# Altium footprint library Blue_Pill.PcbLib: 13 footprints
Each footprint in its own frame and in the unit in brackets; x right, y up, seen from the top. Pads: shape width x height; smd on the part's side, far side on the other; paste and mask are expansions set on the pad; w line width, h text height; cw(c..) or ccw(c..) is an arc to the next point about the centre after c.
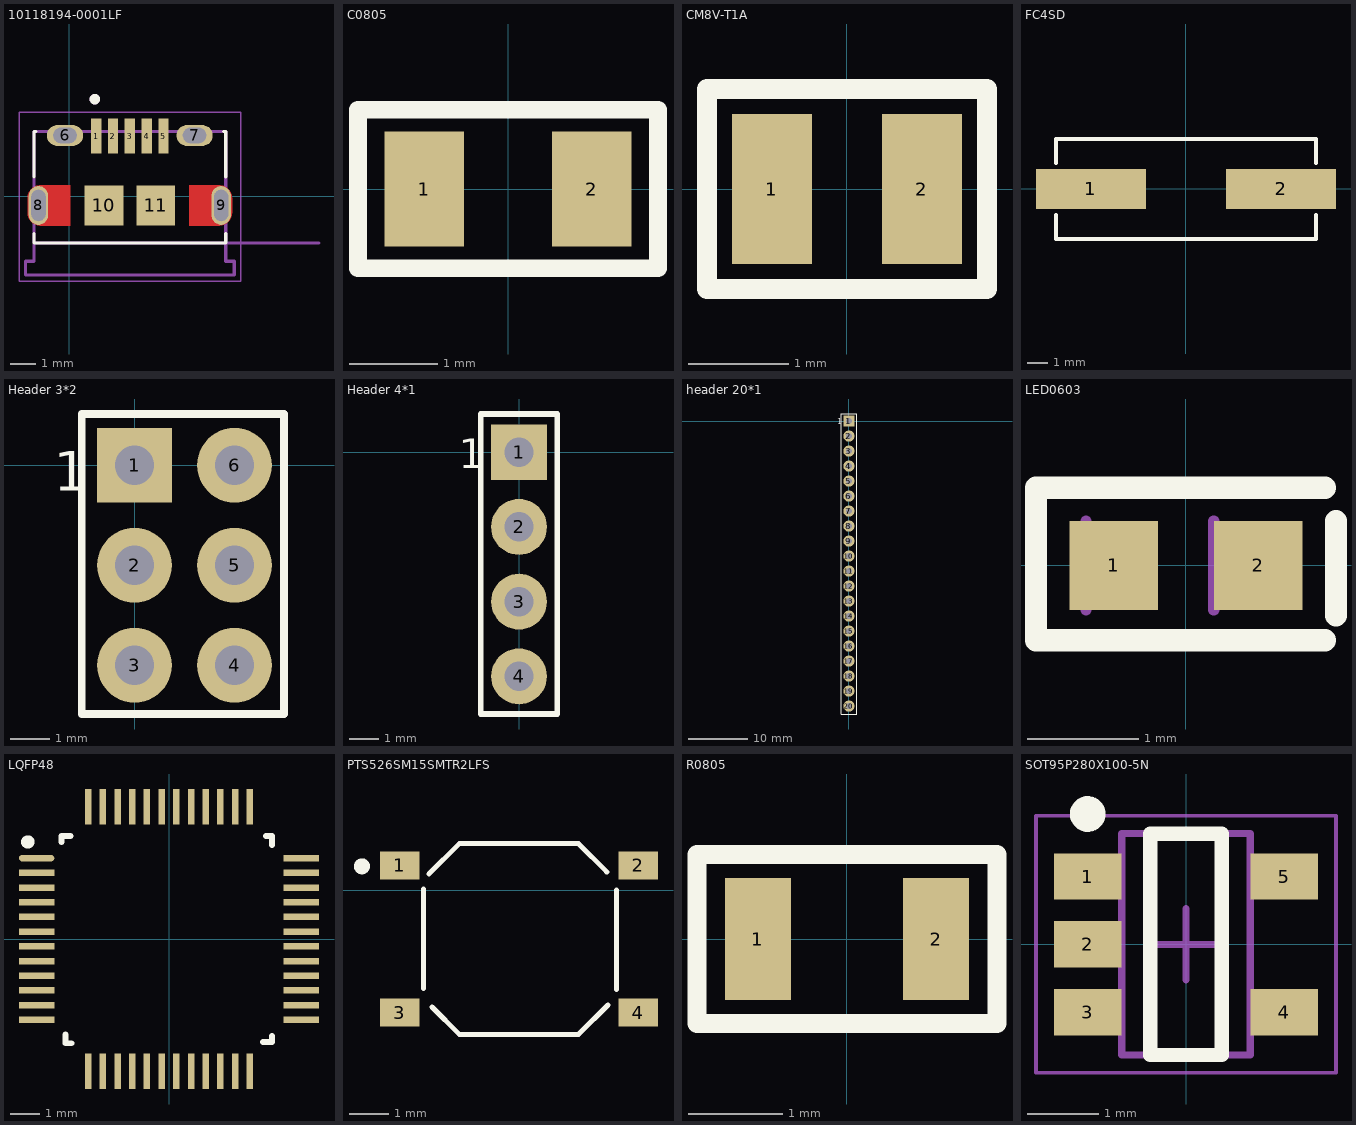
[diagram p0: the footprints below, top view; thin cyan lines are the x and y axes]

## 10118194-0001LF [mm]
pads (11):
  rect 0.4x1.35 smd mask+0.06: 1(1.038,2.321) 2(1.688,2.321) 3(2.338,2.321) 4(2.988,2.321) 5(3.638,2.321)
  oval 1.4x0.8 hole 0.6 slot 0.9 at 0 deg: 6(-0.162,2.346) 7(4.838,2.346)
  oval 0.75x1.5 hole 0.55 slot 1.2 at 90 deg: 8(-1.187,-0.354) 9(5.863,-0.354)
  rect 1.5x1.55 smd: 10(1.338,-0.354) 11(3.338,-0.354)
Top Layer:
  region: 0.038,-1.129 -1.107,-1.129 -1.133,-1.128 -1.159,-1.126 -1.185,-1.123 -1.211,-1.118 -1.236,-1.112 -1.262,-1.105 -1.286,-1.096 -1.31,-1.086 -1.334,-1.075 -1.357,-1.062 -1.379,-1.048 -1.401,-1.034 -1.422,-1.018 -1.442,-1.001 -1.461,-0.983 -1.479,-0.964 -1.496,-0.944 -1.512,-0.923 -1.526,-0.901 -1.54,-0.879 -1.553,-0.856 -1.564,-0.832 -1.574,-0.808 -1.583,-0.784 -1.59,-0.758 -1.596,-0.733 -1.601,-0.707 -1.604,-0.681 -1.606,-0.655 -1.607,-0.629 -1.607,-0.079 -1.606,-0.053 -1.604,-0.027 -1.601,-0.001 -1.596,0.025 -1.59,0.05 -1.583,0.076 -1.574,0.1 -1.564,0.124 -1.553,0.148 -1.54,0.171 -1.526,0.193 -1.512,0.215 -1.496,0.236 -1.479,0.256 -1.461,0.275 -1.442,0.293 -1.422,0.31 -1.401,0.326 -1.379,0.34 -1.357,0.354 -1.334,0.367 -1.31,0.378 -1.286,0.388 -1.262,0.397 -1.236,0.404 -1.211,0.41 -1.185,0.415 -1.159,0.418 -1.133,0.42 -1.107,0.421 0.038,0.421
  region: 5.809,0.42 5.835,0.418 5.861,0.415 5.887,0.41 5.912,0.404 5.938,0.397 5.962,0.388 5.986,0.378 6.01,0.367 6.033,0.354 6.055,0.34 6.077,0.326 6.098,0.31 6.118,0.293 6.137,0.275 6.155,0.256 6.172,0.236 6.188,0.215 6.202,0.193 6.216,0.171 6.229,0.148 6.24,0.124 6.25,0.1 6.259,0.076 6.266,0.05 6.272,0.025 6.277,-0.001 6.28,-0.027 6.282,-0.053 6.283,-0.079 6.283,-0.629 6.282,-0.655 6.28,-0.681 6.277,-0.707 6.272,-0.733 6.266,-0.758 6.259,-0.784 6.25,-0.808 6.24,-0.832 6.229,-0.856 6.216,-0.879 6.202,-0.901 6.188,-0.923 6.172,-0.944 6.155,-0.964 6.137,-0.983 6.118,-1.001 6.098,-1.018 6.077,-1.034 6.055,-1.048 6.033,-1.062 6.01,-1.075 5.986,-1.086 5.962,-1.096 5.938,-1.105 5.912,-1.112 5.887,-1.118 5.861,-1.123 5.835,-1.126 5.809,-1.128 5.783,-1.129 4.638,-1.129 4.638,0.421 5.783,0.421
Top Overlay:
  circle w0.2: c0.988,3.746 r0.1
  lines w0.127: -1.362,-1.449 -1.362,-1.804 6.038,-1.804 6.038,-1.449 ; -1.362,0.741 -1.362,2.496 -1.282,2.496 ; 5.958,2.496 6.038,2.496 6.038,0.741
Top Paste:
  region: 0.038,-1.129 -1.107,-1.129 -1.133,-1.128 -1.159,-1.126 -1.185,-1.123 -1.211,-1.118 -1.236,-1.112 -1.262,-1.105 -1.286,-1.096 -1.31,-1.086 -1.334,-1.075 -1.357,-1.062 -1.379,-1.048 -1.401,-1.034 -1.422,-1.018 -1.442,-1.001 -1.461,-0.983 -1.479,-0.964 -1.496,-0.944 -1.512,-0.923 -1.526,-0.901 -1.54,-0.879 -1.553,-0.856 -1.564,-0.832 -1.574,-0.808 -1.583,-0.784 -1.59,-0.758 -1.596,-0.733 -1.601,-0.707 -1.604,-0.681 -1.606,-0.655 -1.607,-0.629 -1.607,-0.079 -1.606,-0.053 -1.604,-0.027 -1.601,-0.001 -1.596,0.025 -1.59,0.05 -1.583,0.076 -1.574,0.1 -1.564,0.124 -1.553,0.148 -1.54,0.171 -1.526,0.193 -1.512,0.215 -1.496,0.236 -1.479,0.256 -1.461,0.275 -1.442,0.293 -1.422,0.31 -1.401,0.326 -1.379,0.34 -1.357,0.354 -1.334,0.367 -1.31,0.378 -1.286,0.388 -1.262,0.397 -1.236,0.404 -1.211,0.41 -1.185,0.415 -1.159,0.418 -1.133,0.42 -1.107,0.421 0.038,0.421
  region: 5.809,0.42 5.835,0.418 5.861,0.415 5.887,0.41 5.912,0.404 5.938,0.397 5.962,0.388 5.986,0.378 6.01,0.367 6.033,0.354 6.055,0.34 6.077,0.326 6.098,0.31 6.118,0.293 6.137,0.275 6.155,0.256 6.172,0.236 6.188,0.215 6.202,0.193 6.216,0.171 6.229,0.148 6.24,0.124 6.25,0.1 6.259,0.076 6.266,0.05 6.272,0.025 6.277,-0.001 6.28,-0.027 6.282,-0.053 6.283,-0.079 6.283,-0.629 6.282,-0.655 6.28,-0.681 6.277,-0.707 6.272,-0.733 6.266,-0.758 6.259,-0.784 6.25,-0.808 6.24,-0.832 6.229,-0.856 6.216,-0.879 6.202,-0.901 6.188,-0.923 6.172,-0.944 6.155,-0.964 6.137,-0.983 6.118,-1.001 6.098,-1.018 6.077,-1.034 6.055,-1.048 6.033,-1.062 6.01,-1.075 5.986,-1.086 5.962,-1.096 5.938,-1.105 5.912,-1.112 5.887,-1.118 5.861,-1.123 5.835,-1.126 5.809,-1.128 5.783,-1.129 4.638,-1.129 4.638,0.421 5.783,0.421
Top Solder:
  region: 0.138,-1.229 -1.207,-1.229 -1.233,-1.228 -1.259,-1.226 -1.285,-1.223 -1.311,-1.218 -1.336,-1.212 -1.362,-1.205 -1.386,-1.196 -1.41,-1.186 -1.434,-1.175 -1.457,-1.162 -1.479,-1.148 -1.501,-1.134 -1.522,-1.118 -1.542,-1.101 -1.561,-1.083 -1.579,-1.064 -1.596,-1.044 -1.612,-1.023 -1.626,-1.001 -1.64,-0.979 -1.653,-0.956 -1.664,-0.932 -1.674,-0.908 -1.683,-0.884 -1.69,-0.858 -1.696,-0.833 -1.701,-0.807 -1.704,-0.781 -1.706,-0.755 -1.707,-0.729 -1.707,0.021 -1.706,0.047 -1.704,0.073 -1.701,0.099 -1.696,0.125 -1.69,0.15 -1.683,0.176 -1.674,0.2 -1.664,0.224 -1.653,0.248 -1.64,0.271 -1.626,0.293 -1.612,0.315 -1.596,0.336 -1.579,0.356 -1.561,0.375 -1.542,0.393 -1.522,0.41 -1.501,0.426 -1.479,0.44 -1.457,0.454 -1.434,0.467 -1.41,0.478 -1.386,0.488 -1.362,0.497 -1.336,0.504 -1.311,0.51 -1.285,0.515 -1.259,0.518 -1.233,0.52 -1.207,0.521 0.138,0.521
  region: 5.909,0.52 5.935,0.518 5.961,0.515 5.987,0.51 6.012,0.504 6.038,0.497 6.062,0.488 6.086,0.478 6.11,0.467 6.133,0.454 6.155,0.44 6.177,0.426 6.198,0.41 6.218,0.393 6.237,0.375 6.255,0.356 6.272,0.336 6.288,0.315 6.302,0.293 6.316,0.271 6.329,0.248 6.34,0.224 6.35,0.2 6.359,0.176 6.366,0.15 6.372,0.125 6.377,0.099 6.38,0.073 6.382,0.047 6.383,0.021 6.383,-0.729 6.382,-0.755 6.38,-0.781 6.377,-0.807 6.372,-0.833 6.366,-0.858 6.359,-0.884 6.35,-0.908 6.34,-0.932 6.329,-0.956 6.316,-0.979 6.302,-1.001 6.288,-1.023 6.272,-1.044 6.255,-1.064 6.237,-1.083 6.218,-1.101 6.198,-1.118 6.177,-1.134 6.155,-1.148 6.133,-1.162 6.11,-1.175 6.086,-1.186 6.062,-1.196 6.038,-1.205 6.012,-1.212 5.987,-1.218 5.961,-1.223 5.935,-1.226 5.909,-1.228 5.883,-1.229 4.538,-1.229 4.538,0.521 5.883,0.521
Mechanical 13:
  circle w0.2: c0.988,3.746 r0.1
  lines w0.127: 9.638,-1.804 6.038,-1.804 ; -1.362,-1.804 6.038,-1.804 ; -1.362,-1.804 -1.362,2.496 6.038,2.496 6.038,-1.804 ; -1.362,-1.804 -1.362,-2.504 -1.687,-2.504 -1.687,-3.034 6.363,-3.034 6.363,-2.504 6.038,-2.504 6.038,-1.804
  text "PCB END" at 6.888,-1.654 h0.5
Mechanical 15:
  lines w0.05: -1.937,-3.284 -1.937,3.246 6.613,3.246 6.613,-3.284 -1.937,-3.284
3D body "step_temp.STEP": height 2.67, standoff -0.6, extent -1.687,-3.034 6.363,2.496

## C0805 [mm]
pads (2):
  rect 0.9x1.3 smd: 1(-0.95,0) 2(0.95,0)
Top Overlay:
  lines w0.2: -1.7,-0.9 1.7,-0.9 1.7,0.9 -1.7,0.9 -1.7,-0.9
3D body "User Library-User Library-0805(2012M) Cap.step": height 1.3, standoff 0.01, extent -1,-0.645 1,0.645

## CM8V-T1A [mm]
pads (2):
  rect 0.8x1.5 smd: 1(-0.75,0) 2(0.75,0)
Top Overlay:
  lines w0.2: -1.4,-1 -1.4,1 1.4,1 1.4,-1 -1.4,-1
3D body "CM8V-T1A.STEP": height 0.61, standoff 0, extent -1,-0.6 1,0.6

## FC4SD [mm]
pads (2):
  rect 5.5x2 smd: 1(-4.75,0) 2(4.75,0)
Top Overlay:
  lines w0.2: -6.5,-1.3 -6.5,-2.5 6.472,-2.5 ; -6.5,1.3 -6.5,2.5 6.5,2.5 6.5,1.3 ; 6.5,-2.5 6.5,-1.3
3D body "User Library-ECS-240-20-5PX-TR.step": height 4.31, standoff 0.01, extent -6.6,-2.4 6.6,2.4

## Header 3*2 [mm]
pads (6):
  rect 1.9x1.9 hole 1: 1(0,0)
  round 1.9 hole 1: 2(0,-2.54) 3(0,-5.08) 4(2.54,-5.08) 5(2.54,-2.54) 6(2.54,0)
Top Overlay:
  lines w0.2: -1.341,-6.319 3.8,-6.319 3.8,1.3 -1.341,1.3 -1.341,-6.319
  text "1" at -2.05,-0.65 h1
3D body "m20-9980345_asm.stp": height 8.05, standoff -3.63, extent -1.34,-6.32 3.74,1.3

## Header 4*1 [mm]
pads (4):
  rect 1.9x1.9 hole 1: 1(0,0)
  round 1.9 hole 1: 2(0,-2.54) 3(0,-5.08) 4(0,-7.62)
Top Overlay:
  lines w0.2: -1.3,-8.9 -1.3,1.3 1.3,1.3 1.3,-8.9 -1.3,-8.9
  text "1" at -2.05,-0.55 h1
3D body "m20-9960445_asm.stp": height 5.13, standoff -6.09, extent -1.27,-8.86 4.27,1.3

## header 20*1 [mm]
pads (20):
  rect 1.9x1.9 hole 1: 1(0,0)
  round 1.9 hole 1: 2(0,-2.54) 3(0,-5.08) 4(0,-7.62) 5(0,-10.16) 6(0,-12.7) 7(0,-15.24) 8(0,-17.78) 9(0,-20.32) 10(0,-22.86) 11(0,-25.4) 12(0,-27.94) 13(0,-30.48) 14(0,-33.02) 15(0,-35.56) 16(0,-38.1) 17(0,-40.64) 18(0,-43.18) 19(0,-45.72) 20(0,-48.26)
Top Overlay:
  lines w0.2: -1.3,-49.6 -1.3,1.2 1.3,1.2 1.3,-49.6 -1.3,-49.6
  text "1" at -1.95,-0.55 h1
3D body "m20-9992045_asm.stp": height 8.05, standoff -3.63, extent -1.27,-49.6 1.27,1.2

## LED0603 [mm]
height 0.8
pads (2):
  rect 0.8x0.8 smd: 1(-0.65,0) 2(0.65,0)
Top Overlay:
  lines w0.2: 1.25,-0.673 -1.35,-0.673 -1.35,0.7 1.25,0.7 ; 1.35,-0.45 1.35,0.4
Mechanical 13:
  lines w0.1: -0.9,-0.4 -0.9,0.4
Mechanical 15:
  lines w0.1: 0.25,-0.4 0.25,0.4
3D body "User Library-LED SMD0603.step": height 0.68, standoff 0, extent -0.856,-0.352 0.794,0.373

## LQFP48 [mm]
pads (48):
  oval 1.2x0.22 smd mask+0.06: 1(-4.5,2.75)
  rect 1.2x0.22 smd mask+0.06: 2(-4.5,2.25) 3(-4.5,1.75) 4(-4.5,1.25) 5(-4.5,0.75) 6(-4.5,0.25) 7(-4.5,-0.25) 8(-4.5,-0.75) 9(-4.5,-1.25) 10(-4.5,-1.75) 11(-4.5,-2.25) 12(-4.5,-2.75) 25(4.5,-2.75) 26(4.5,-2.25) 27(4.5,-1.75) 28(4.5,-1.25) 29(4.5,-0.75) 30(4.5,-0.25) 31(4.5,0.25) 32(4.5,0.75) 33(4.5,1.25) 34(4.5,1.75) 35(4.5,2.25) 36(4.5,2.75)
  rect 0.22x1.2 smd mask+0.06: 13(-2.75,-4.5) 14(-2.25,-4.5) 15(-1.75,-4.5) 16(-1.25,-4.5) 17(-0.75,-4.5) 18(-0.25,-4.5) 19(0.25,-4.5) 20(0.75,-4.5) 21(1.25,-4.5) 22(1.75,-4.5) 23(2.25,-4.5) 24(2.75,-4.5) 37(2.75,4.5) 38(2.25,4.5) 39(1.75,4.5) 40(1.25,4.5) 41(0.75,4.5) 42(0.25,4.5) 43(-0.25,4.5) 44(-0.75,4.5) 45(-1.25,4.5) 46(-1.75,4.5) 47(-2.25,4.5) 48(-2.75,4.5)
Top Overlay:
  circle w0.254: c-4.8,3.3 r0.1
  lines w0.2: -3.65,3.3 -3.65,3.5 -3.35,3.5 ; -3.517,-3.245 -3.517,-3.545 -3.317,-3.545 ; 3.2,-3.5 3.5,-3.5 3.5,-3.3 ; 3.3,3.5 3.5,3.5 3.5,3.2
3D body "SW3dPS-P-LQFP48-7x7-0.50.STEP": height 1.4, standoff -0.05, extent -4.5,-4.5 4.5,4.5

## PCBComponent_1 - duplicate [mm]

## PTS526SM15SMTR2LFS [mm]
pads (4):
  rect 1x0.7 smd: 1(2.75,0.621) 2(8.75,0.621) 3(2.75,-3.079) 4(8.75,-3.079)
Top Overlay:
  circle w0.2: c1.8,0.6 r0.1
  lines w0.127: 3.35,-2.473 3.35,0.035 ; 3.49,0.41 4.25,1.171 7.25,1.171 7.961,0.46 ; 3.561,-2.939 4.25,-3.629 7.25,-3.629 7.99,-2.889 ; 8.2,-2.5 8.2,0
Mechanical 13:
  lines w0.127: 4.25,-3.629 7.25,-3.629 ; 4.25,1.171 7.25,1.171
3D body "User Library-4x4_SMD_Switch.STEP": height 1.5, standoff 0, extent 2.571,-3.804 8.971,1.396

## R0805 [mm]
pads (2):
  rect 0.7x1.3 smd: 1(-0.95,0) 2(0.95,0)
Top Overlay:
  lines w0.2: -1.6,-0.9 1.6,-0.9 1.6,0.9 -1.6,0.9 -1.6,-0.9
3D body "User Library-CR2012-0805.step": height 0.61, standoff 0.01, extent -1,-0.625 1,0.625

## SOT95P280X100-5N [mm] "SOT23, 5-Leads, Body 2.90x2.80mm, Pitch 0.95mm, IPC Medium Density"
height 1
pads (5):
  rect 0.95x0.65 smd mask+0.06: 1(-1.375,0.95) 2(-1.375,0) 3(-1.375,-0.95) 4(1.375,-0.95) 5(1.375,0.95)
Top Overlay:
  circle w0.25: c-1.375,1.825 r0.125
  lines w0.2: -0.5,-1.55 0.5,-1.55 0.5,1.55 -0.5,1.55 -0.5,-1.55
Mechanical 13:
  lines w0.1: -0.9,-1.55 -0.9,1.55 0.9,1.55 0.9,-1.55 -0.9,-1.55
Mechanical 15:
  lines w0.05: -2.1,-1.8 -2.1,1.8 2.1,1.8 2.1,-1.8 -2.1,-1.8
  lines w0.1: -0.5,0 0.5,0 ; 0,-0.5 0,0.5
3D body "SOT95P280X100-5N.step": height 1, standoff 0, extent -1.5,-1.55 1.5,1.55